# EAGLE library part PREC07X1 (library con-pinheader-precision)
female precision header
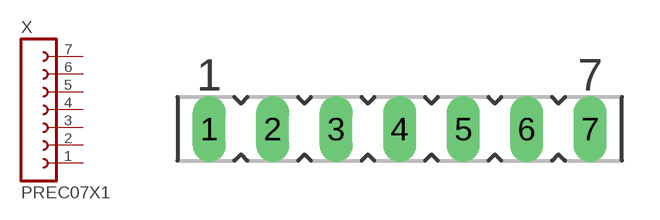
[diagram p36: symbol with the pads of PREC07X1-2.54; footprint PREC07X1-2.54]

Designator prefix X

## PREC07X1-2.54MM (OC_FARNELL: unknown; OC_NEWARK: unknown)  [PREC07X1-2.54]
1  1  pas
2  2  pas
3  3  pas
4  4  pas
5  5  pas
6  6  pas
7  7  pas

## Footprint PREC07X1-2.54 (pad centres in mm)
female precision header
drill 0.813 long: 1 -7.62,0; 2 -5.08,0; 3 -2.54,0; 4 0,0; 5 2.54,0; 6 5.08,0; 7 7.62,0